# EAGLE library part H-BRIDGE_SN754410 (library Chao)
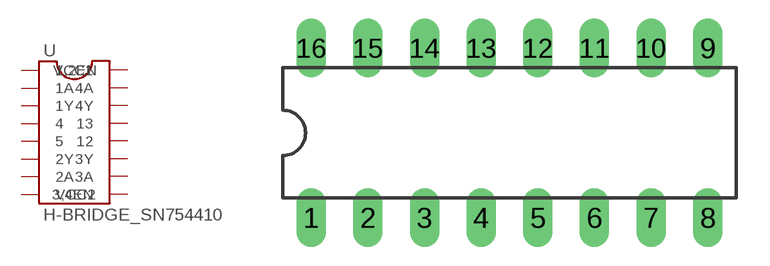
[diagram p0: symbol with the pads of 16PIN_IC; footprint 16PIN_IC]

Designator prefix -

## H-BRIDGE_SN754410  [16PIN_IC]
1  1,2EN  in
2  1A  in
3  1Y  out
4  4  pas
5  5  pas
6  2Y  out
7  2A  in
8  VCC2  pas
9  3,4EN  in
10  3A  in
11  3Y  out
12  12  pas
13  13  pas
14  4Y  out
15  4A  in
16  VCC1  pas

## Footprint 16PIN_IC (pad centres in mm)
16 Pins IC Package
drill 0.813 long: 1 -11.43,-3.81; 2 -8.89,-3.81; 3 -6.35,-3.81; 4 -3.81,-3.81; 5 -1.27,-3.81; 6 1.27,-3.81; 7 3.81,-3.81; 8 6.35,-3.81; 9 6.35,3.81; 10 3.81,3.81; 11 1.27,3.81; 12 -1.27,3.81; 13 -3.81,3.81; 14 -6.35,3.81; 15 -8.89,3.81; 16 -11.43,3.81